# Altium footprint library Smart_Gateway_Rev1.0.PcbLib: 49 footprints (part 3 of 4)
Each footprint in its own frame and in the unit in brackets; x right, y up, seen from the top. Pads: shape width x height; smd on the part's side, far side on the other; paste and mask are expansions set on the pad; w line width, h text height; cw(c..) or ccw(c..) is an arc to the next point about the centre after c.
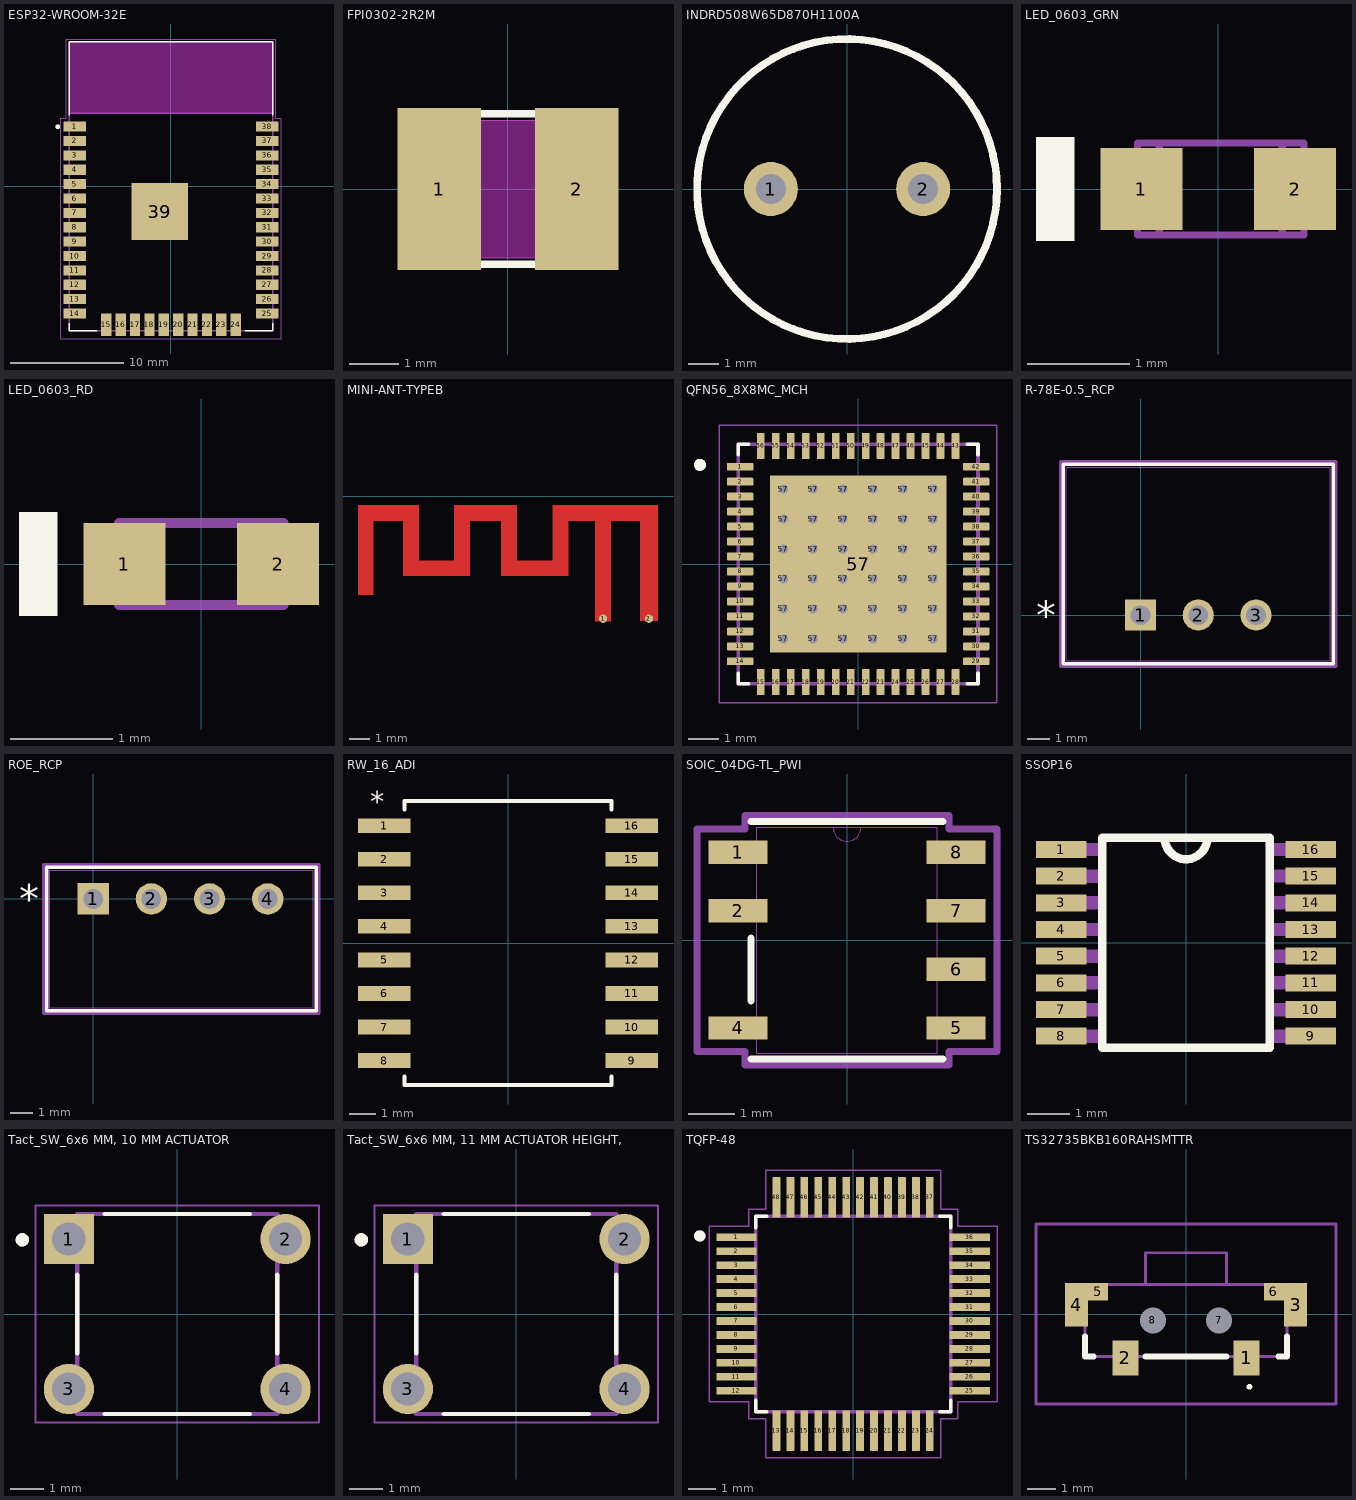
[diagram p2: the footprints below, top view; thin cyan lines are the x and y axes]

## ESP32-WROOM-32E [mm]
pads (39):
  rect 2x0.9 smd: 1(-8.5,5.26) 2(-8.5,3.99) 3(-8.5,2.72) 4(-8.5,1.45) 5(-8.5,0.18) 6(-8.5,-1.09) 7(-8.5,-2.36) 8(-8.5,-3.63) 9(-8.5,-4.9) 10(-8.5,-6.17) 11(-8.5,-7.44) 12(-8.5,-8.71) 13(-8.5,-9.98) 14(-8.5,-11.25) 25(8.5,-11.25) 26(8.5,-9.98) 27(8.5,-8.71) 28(8.5,-7.44) 29(8.5,-6.17) 30(8.5,-4.9) 31(8.5,-3.63) 32(8.5,-2.36) 33(8.5,-1.09) 34(8.5,0.18) 35(8.5,1.45) 36(8.5,2.72) 37(8.5,3.99) 38(8.5,5.26)
  rect 0.9x2 smd: 15(-5.715,-12.25) 16(-4.445,-12.25) 17(-3.175,-12.25) 18(-1.905,-12.25) 19(-0.635,-12.25) 20(0.635,-12.25) 21(1.905,-12.25) 22(3.175,-12.25) 23(4.445,-12.25) 24(5.715,-12.25)
  rect 5x5 smd paste-3: 39(-1,-2.24)
Top Overlay:
  circle w0.2: c-10,5.25 r0.1
  lines w0.127: -9,-12.1 -9,-12.75 -6.55,-12.75 ; -9,6.25 -9,12.75 9,12.75 9,6.25 ; 6.55,-12.75 9,-12.75 9,-12.1
Top Paste:
  region: -1.46,-4.28 -3.04,-4.28 -3.04,-2.7 -1.46,-2.7
  region: 1.04,-4.28 -0.54,-4.28 -0.54,-2.7 1.04,-2.7
  region: 1.04,-1.78 -0.54,-1.78 -0.54,-0.2 1.04,-0.2
  region: -1.46,-1.78 -3.04,-1.78 -3.04,-0.2 -1.46,-0.2
Keep-Out Layer:
  region: 9,6.45 -9,6.45 -9,12.75 9,12.75
  region: 9,6.45 -9,6.45 -9,12.75 9,12.75
Mechanical 13:
  circle w0.2: c-10,5.25 r0.1
  lines w0.127: -9,6.45 9,6.45 ; -9,6.45 -9,12.75 9,12.75 9,6.45 ; -9,6.45 -9,-12.75 9,-12.75 9,6.45
  text "ANTENNA" at -6,9 h1.78
Mechanical 15:
  lines w0.05: -9.75,-13.5 -9.75,6 -9.25,6 -9.25,13 9.25,13 9.25,6 9.75,6 9.75,-13.5 -9.75,-13.5
3D body "ESP32-WROOM-32 (8MB)--3DModel-STEP-56544.STEP": height 3.2, standoff 0, extent -9,-12.75 9,12.75

## FPI0302-2R2M [mm] "INDUCTOR POWER 2.2UH 3.3X3MM SMD"
pads (2):
  rect 1.7x3.3 smd paste+0 mask+0: 1(-1.4,0) 2(1.4,0)
Top Layer keep-out:
  region: -0.899,-1.349 -0.899,1.349 0.899,1.349 0.899,-1.349
Top Overlay:
  lines w0.152: -0.642,-1.527 0.642,-1.527 ; -0.642,1.527 0.642,1.527
Keep-Out Layer:
  region: -0.899,-1.4 -0.899,1.4 0.899,1.4 0.899,-1.4
Mechanical 13:
  lines w0.025: -1.75,-1.4 -1.75,1.4 ; -1.75,-1.4 -1.25,-1.4 -1.25,1.4 -1.75,1.4 ; -1.75,-1.4 1.75,-1.4 ; -1.75,-1.4 -1.75,1.4 ; -1.75,1.4 1.75,1.4 ; 1.75,-1.4 1.25,-1.4 1.25,1.4 1.75,1.4 ; 1.75,-1.4 1.75,1.4 ; 1.75,-1.4 1.75,1.4
3D body: height 2.1, standoff 0, extent -1.64,-0.11 -0.46,1.49
3D body: height 2.1, standoff 0, extent 0.36,-0.11 1.54,1.49
3D body: height 2.1, standoff 0, extent 0.36,-1.51 1.54,0.09
3D body: height 2.1, standoff 0, extent -1.64,-1.51 -0.46,0.09
3D body: height 2.1, standoff 0, extent -0.55,-1.51 0.45,1.49

## INDRD508W65D870H1100A [mm]
pads (2):
  round 1.8 hole 1: 1(-2.54,0) 2(2.54,0)
Top Overlay:
  circle w0.254: c0,0 r5
3D body "User Library-Inductor 10x12 (200 mils).STEP": height 12.01, standoff -3.99, extent -5,-4.965 5,5.035

## LED_0603_GRN [mm]
pads (2):
  rect 0.8x0.8 smd: 1(-0.75,0) 2(0.75,0)
Top Overlay:
  rectangle: -1.778,-0.508 -1.4,0.508
Mechanical 13:
  lines w0.07: -0.575,-0.45 -0.575,0.45 ; 0.625,-0.45 0.625,0.45 ; -0.787,-0.45 -0.787,0.45 0.838,0.45 0.838,-0.45 -0.787,-0.45
3D body: height 0.36, standoff 0.35, extent -0.574,-0.449 0.625,0.45
3D body: height 0.35, standoff 0, extent -0.787,-0.45 -0.575,0.45
3D body: height 0.35, standoff 0, extent -0.574,-0.449 0.625,0.45
3D body: height 0.8, standoff 0.35, extent -0.574,-0.449 0.625,0.45
3D body: height 0.35, standoff 0, extent 0.626,-0.45 0.838,0.45

## LED_0603_RD [mm]
pads (2):
  rect 0.8x0.8 smd: 1(-0.75,0) 2(0.75,0)
Top Overlay:
  rectangle: -1.778,-0.508 -1.4,0.508
Mechanical 13:
  rectangle: 0.525,-0.4 0.775,0.4
  lines w0.1: -0.8,-0.4 -0.8,0.4 0.8,0.4 0.8,-0.4 -0.8,-0.4
3D body: height 0.28, standoff 0.1, extent -0.6,-0.4 0.6,0.4
3D body: height 0.2, standoff 0.15, extent -0.254,-0.254 0.254,0.254
3D body: height 0.1, standoff 0, extent -0.8,-0.4 0.8,0.4

## MINI-ANT-TYPEB [mm]
pads (2):
  round 0.4 smd paste-0.2: 1(13.208,-5.969) 2(15.445,-5.969)
Top Layer:
  rectangle: 15.004,-6.083 15.885,-0.429
  region: 12.831,-6.083 13.585,-6.083 13.585,-1.183 15.004,-1.183 15.004,-0.429 10.758,-0.429 10.758,-3.129 9.001,-3.129 9.001,-0.429 5.947,-0.429 5.947,-3.129 4.201,-3.129 4.201,-0.429 1.247,-0.429 1.247,-4.808 2.001,-4.808 2.001,-1.183 3.447,-1.183 3.447,-3.883 6.701,-3.883 6.701,-1.183 8.247,-1.183 8.247,-3.883 11.512,-3.883 11.512,-1.183 12.831,-1.183

## QFN56_8X8MC_MCH [mm]
pads (93):
  rrect25% 0.88x0.26 smd: 1(-3.94,3.25) 2(-3.94,2.75) 3(-3.94,2.25) 4(-3.94,1.75) 5(-3.94,1.25) 6(-3.94,0.75) 7(-3.94,0.25) 8(-3.94,-0.25) 9(-3.94,-0.75) 10(-3.94,-1.25) 11(-3.94,-1.75) 12(-3.94,-2.25) 13(-3.94,-2.75) 14(-3.94,-3.25) 29(3.94,-3.25) 30(3.94,-2.75) 31(3.94,-2.25) 32(3.94,-1.75) 33(3.94,-1.25) 34(3.94,-0.75) 35(3.94,-0.25) 36(3.94,0.25) 37(3.94,0.75) 38(3.94,1.25) 39(3.94,1.75) 40(3.94,2.25) 41(3.94,2.75) 42(3.94,3.25)
  rrect25% 0.26x0.88 smd: 15(-3.25,-3.94) 16(-2.75,-3.94) 17(-2.25,-3.94) 18(-1.75,-3.94) 19(-1.25,-3.94) 20(-0.75,-3.94) 21(-0.25,-3.94) 22(0.25,-3.94) 23(0.75,-3.94) 24(1.25,-3.94) 25(1.75,-3.94) 26(2.25,-3.94) 27(2.75,-3.94) 28(3.25,-3.94) 43(3.25,3.94) 44(2.75,3.94) 45(2.25,3.94) 46(1.75,3.94) 47(1.25,3.94) 48(0.75,3.94) 49(0.25,3.94) 50(-0.25,3.94) 51(-0.75,3.94) 52(-1.25,3.94) 53(-1.75,3.94) 54(-2.25,3.94) 55(-2.75,3.94) 56(-3.25,3.94)
  round 0.4 hole 0.3: 57(-2.5,-2.5) 57(-2.5,-1.5) 57(-2.5,-0.5) 57(-2.5,0.5) 57(-2.5,1.5) 57(-2.5,2.5) 57(-1.5,-2.5) 57(-1.5,-1.5) 57(-1.5,-0.5) 57(-1.5,0.5) 57(-1.5,1.5) 57(-1.5,2.5) 57(-0.5,-2.5) 57(-0.5,-1.5) 57(-0.5,-0.5) 57(-0.5,0.5) 57(-0.5,1.5) 57(-0.5,2.5) 57(0.5,-2.5) 57(0.5,-1.5) 57(0.5,-0.5) 57(0.5,0.5) 57(0.5,1.5) 57(0.5,2.5) 57(1.5,-2.5) 57(1.5,-1.5) 57(1.5,-0.5) 57(1.5,0.5) 57(1.5,1.5) 57(1.5,2.5) 57(2.5,-2.5) 57(2.5,-1.5) 57(2.5,-0.5) 57(2.5,0.5) 57(2.5,1.5) 57(2.5,2.5)
  rect 5.9x5.9 smd paste-4: 57(0,0)
Top Overlay:
  circle w0.2: c-5.28,3.31 r0.1
  lines w0.127: -4,-3.65 -4,-4 -3.65,-4 ; -4,3.65 -4,4 -3.65,4 ; 3.65,-4 4,-4 4,-3.65 ; 3.65,4 4,4 4,3.65
Top Paste:
  region: 2.7,1.5 1.5,1.5 1.5,2.7 2.7,2.7
  region: 2.7,0.1 1.5,0.1 1.5,1.3 2.7,1.3
  region: 2.7,-1.3 1.5,-1.3 1.5,-0.1 2.7,-0.1
  region: 2.7,-2.7 1.5,-2.7 1.5,-1.5 2.7,-1.5
  region: -1.5,-2.7 -2.7,-2.7 -2.7,-1.5 -1.5,-1.5
  region: 1.3,-2.7 0.1,-2.7 0.1,-1.5 1.3,-1.5
  region: -0.1,-2.7 -1.3,-2.7 -1.3,-1.5 -0.1,-1.5
  region: 1.3,1.5 0.1,1.5 0.1,2.7 1.3,2.7
  region: -0.1,1.5 -1.3,1.5 -1.3,2.7 -0.1,2.7
  region: -1.5,1.5 -2.7,1.5 -2.7,2.7 -1.5,2.7
  region: -1.5,0.1 -2.7,0.1 -2.7,1.3 -1.5,1.3
  region: -1.5,-1.3 -2.7,-1.3 -2.7,-0.1 -1.5,-0.1
  region: 1.3,-1.3 0.1,-1.3 0.1,-0.1 1.3,-0.1
  region: -0.1,-1.3 -1.3,-1.3 -1.3,-0.1 -0.1,-0.1
  region: 1.3,0.1 0.1,0.1 0.1,1.3 1.3,1.3
  region: -0.1,0.1 -1.3,0.1 -1.3,1.3 -0.1,1.3
Mechanical 13:
  circle w0.2: c-5.28,3.31 r0.1
  lines w0.127: -4,-4 -4,4 4,4 4,-4 -4,-4
Mechanical 15:
  lines w0.05: -4.635,-4.635 -4.635,4.635 4.635,4.635 4.635,-4.635 -4.635,-4.635
3D body "LAN9303I-ABZJ.STEP": height 1, standoff 0, extent -4,-4 4,4

## R-78E-0.5_RCP [mil]
pads (3):
  rect 54x54 / inner round 60 / far side rect 54x54 hole 34 paste-27 mask+0: 1(0,0)
  round 54 / inner round 60 / far side round 54 hole 34 paste-27 mask+0: 2(100,0) 3(200,0)
Top Overlay:
  lines w6: -133.5,-83.92 -133.5,261.08 333.5,261.08 333.5,-83.92 -133.5,-83.92
  text "*" at -181,-25 h50
Mechanical 13:
  lines w1: -128.5,-78.92 -128.5,256.08 328.5,256.08 328.5,-78.92 -128.5,-78.92
  text "*" at -131,-25 h50
Mechanical 15:
  lines w6: -138.5,-88.92 338.5,-88.92 338.5,266.08 -138.5,266.08 -138.5,-88.92
3D body "R-78E-05_RCP.step": height 409.45, standoff -195.98, extent -128.5,-78.48 328.5,256.48

## ROE_RCP [mil]
pads (4):
  rect 54x54 / inner round 60 / far side rect 54x54 hole 34 paste-27 mask+0: 1(0,0)
  round 54 / inner round 60 / far side round 54 hole 34 paste-27 mask+0: 2(100,0) 3(200,0) 4(300,0)
Top Overlay:
  lines w6: -79.93,-191.9 383.07,-191.9 383.07,54.1 -79.93,54.1 -79.93,-191.9
  text "*" at -127.43,-25 h50
Mechanical 13:
  lines w1: -74.93,-186.9 378.07,-186.9 378.07,49.1 -74.93,49.1 -74.93,-186.9
  text "*" at -77.43,-25 h50
Mechanical 15:
  lines w6: -84.93,-196.9 -84.93,59.1 388.07,59.1 388.07,-196.9 -84.93,-196.9
3D body "ROE_RCP.step": height 394.02, standoff -195.98, extent -76.5,-185.98 376.5,50

## RW_16_ADI [mil]
pads (16):
  rect 78x22 smd: 1(-184.5,175) 2(-184.5,125) 3(-184.5,75) 4(-184.5,25) 5(-184.5,-25) 6(-184.5,-75) 7(-184.5,-125) 8(-184.5,-175) 9(184.5,-175) 10(184.5,-125) 11(184.5,-75) 12(184.5,-25) 13(184.5,25) 14(184.5,75) 15(184.5,125) 16(184.5,175)
Top Overlay:
  lines w6: -154.5,-199.1 -154.5,-211.5 154.5,-211.5 154.5,-199.1 ; -154.5,199.1 -154.5,211.5 154.5,211.5 154.5,199.1
  text "*" at -205,195 h31.25
3D body "RW_16_ADI.step": height 104.09, standoff 0, extent -209.48,-206.49 209.49,206.5

## SOIC_04DG-TL_PWI [mm]
pads (7):
  rect 1.27x0.508 smd paste+0 mask+0: 1(-2.365,1.905) 2(-2.365,0.635) 4(-2.365,-1.905) 5(2.365,-1.905) 6(2.365,-0.635) 7(2.365,0.635) 8(2.365,1.905)
Top Overlay:
  lines w0.152: -2.083,-2.578 2.083,-2.578 ; -2.083,-1.318 -2.083,0.048 ; -2.083,2.578 2.083,2.578
Mechanical 13:
  lines w0: -0.305,2.451 ccw(c0,2.451) 0.305,2.451
  lines w0.025: -1.956,-2.451 1.956,-2.451 1.956,2.451 -1.956,2.451 -1.956,-2.451
Mechanical 15:
  lines w0.152: -3.254,-2.413 -3.254,2.413 -2.21,2.413 -2.21,2.705 2.21,2.705 2.21,2.413 3.254,2.413 3.254,-2.413 2.21,-2.413 2.21,-2.705 -2.21,-2.705 -2.21,-2.413 -3.254,-2.413
3D body "SOIC_04DG-TL_PWI.step": height 1.75, standoff 0, extent -2.65,-2.451 2.65,2.451

## SSOP16 [mil]
pads (16):
  rect 47.24x16 smd: 1(-117,87.5) 2(-117,62.5) 3(-117,37.5) 4(-117,12.5) 5(-117,-12.5) 6(-117,-37.5) 7(-117,-62.5) 8(-117,-87.5) 9(117,-87.5) 10(117,-62.5) 11(117,-37.5) 12(117,-12.5) 13(117,12.5) 14(117,37.5) 15(117,62.5) 16(117,87.5)
Top Overlay:
  lines w8: -20,98.4 ccw(c0,98.4) 20,98.4 ; -78.4,-98.4 78.4,-98.4 78.4,98.4 -78.4,98.4 -78.4,-98.4
Mechanical 13:
  region: -78.5,81.77 -122.41,81.77 -122.41,93.5 -78.5,93.5
  region: -78.5,56.58 -122.17,56.58 -122.17,68.5 -78.5,68.5
  region: -78.5,31.6 -122.37,31.6 -122.37,43.5 -78.5,43.5
  region: -78.5,6.51 -122.12,6.51 -122.12,18.5 -78.5,18.5
  region: -78.5,-18.52 -122.15,-18.52 -122.15,-6.5 -78.5,-6.5
  region: -78.5,-43.61 -122.32,-43.61 -122.32,-31.5 -78.5,-31.5
  region: -78.5,-68.61 -122.2,-68.61 -122.2,-56.5 -78.5,-56.5
  region: -78.5,-93.72 -122.29,-93.72 -122.29,-81.5 -78.5,-81.5
  region: 122,-93.77 78.72,-93.77 78.72,-81.5 122,-81.5
  region: 122,-68.68 78.71,-68.68 78.71,-56.5 122,-56.5
  region: 122,-43.62 78.72,-43.62 78.72,-31.5 122,-31.5
  region: 122,-18.57 78.8,-18.57 78.8,-6.5 122,-6.5
  region: 122,6.51 78.66,6.51 78.66,18.5 122,18.5
  region: 122,31.57 78.68,31.57 78.68,43.5 122,43.5
  region: 122,56.62 78.67,56.62 78.67,68.5 122,68.5
  region: 122,81.68 78.67,81.68 78.67,93.5 122,93.5
3D body "SSOP16_FTD.step": height 69.09, standoff 0, extent -122.01,-98.5 122.01,98.5

## Tact_SW_6x6 MM, 10 MM ACTUATOR [mm]
pads (4):
  rect 1.508x1.508 hole 1: 1(-3.25,2.25)
  round 1.508 hole 1: 2(3.25,2.25) 3(-3.25,-2.25) 4(3.25,-2.25)
Top Overlay:
  circle w0.2: c-4.647,2.226 r0.1
  lines w0.127: -3,-1.176 -3,1.176 ; -2.176,-3 2.176,-3 ; -2.176,3 2.176,3 ; 3,-1.176 3,1.176
Mechanical 13:
  circle w0.2: c-4.647,2.226 r0.1
  lines w0.127: -3,-3 -3,3 3,3 3,-3 -3,-3
Mechanical 15:
  lines w0.05: -4.254,-3.254 4.254,-3.254 4.254,3.254 -4.254,3.254 -4.254,-3.254
3D body "CUI_DEVICES_TS02-66-100-BK-160-SCR-D.step": height 10, standoff -1.65, extent -3.6,-3 3.6,3

## Tact_SW_6x6 MM, 11 MM ACTUATOR HEIGHT, [mm]
pads (4):
  rect 1.508x1.508 hole 1: 1(-3.25,2.25)
  round 1.508 hole 1: 2(3.25,2.25) 3(-3.25,-2.25) 4(3.25,-2.25)
Top Overlay:
  circle w0.2: c-4.647,2.226 r0.1
  lines w0.127: -3,-1.176 -3,1.176 ; -2.176,-3 2.176,-3 ; -2.176,3 2.176,3 ; 3,-1.176 3,1.176
Mechanical 13:
  circle w0.2: c-4.647,2.226 r0.1
  lines w0.127: -3,-3 -3,3 3,3 3,-3 -3,-3
Mechanical 15:
  lines w0.05: -4.254,-3.254 4.254,-3.254 4.254,3.254 -4.254,3.254 -4.254,-3.254
3D body "CUI_DEVICES_TS02-66-110-BK-260-LCR-D.step": height 11, standoff -3.5, extent -3.95,-3 3.95,3

## TQFP-48 [mm]
pads (48):
  rrect7% 1.44x0.28 smd: 1(-4.185,2.75) 2(-4.185,2.25) 3(-4.185,1.75) 4(-4.185,1.25) 5(-4.185,0.75) 6(-4.185,0.25) 7(-4.185,-0.25) 8(-4.185,-0.75) 9(-4.185,-1.25) 10(-4.185,-1.75) 11(-4.185,-2.25) 12(-4.185,-2.75) 25(4.185,-2.75) 26(4.185,-2.25) 27(4.185,-1.75) 28(4.185,-1.25) 29(4.185,-0.75) 30(4.185,-0.25) 31(4.185,0.25) 32(4.185,0.75) 33(4.185,1.25) 34(4.185,1.75) 35(4.185,2.25) 36(4.185,2.75)
  rrect7% 0.28x1.44 smd: 13(-2.75,-4.185) 14(-2.25,-4.185) 15(-1.75,-4.185) 16(-1.25,-4.185) 17(-0.75,-4.185) 18(-0.25,-4.185) 19(0.25,-4.185) 20(0.75,-4.185) 21(1.25,-4.185) 22(1.75,-4.185) 23(2.25,-4.185) 24(2.75,-4.185) 37(2.75,4.185) 38(2.25,4.185) 39(1.75,4.185) 40(1.25,4.185) 41(0.75,4.185) 42(0.25,4.185) 43(-0.25,4.185) 44(-0.75,4.185) 45(-1.25,4.185) 46(-1.75,4.185) 47(-2.25,4.185) 48(-2.75,4.185)
Top Overlay:
  circle w0.2: c-5.5,2.8 r0.1
  lines w0.127: -3.5,-3.1 -3.5,-3.5 -3.1,-3.5 ; -3.5,3.1 -3.5,3.5 -3.1,3.5 ; 3.1,-3.5 3.5,-3.5 3.5,-3.1 ; 3.1,3.5 3.5,3.5 3.5,3.1
Mechanical 13:
  circle w0.2: c-5.5,2.8 r0.1
  lines w0.127: -3.5,-3.5 3.5,-3.5 3.5,3.5 -3.5,3.5 -3.5,-3.5
Mechanical 15:
  lines w0.05: -5.16,-3.14 -5.16,3.14 -3.75,3.14 -3.75,3.75 -3.14,3.75 -3.14,5.16 3.14,5.16 3.14,3.75 3.75,3.75 3.75,3.14 5.16,3.14 5.16,-3.14 3.75,-3.14 3.75,-3.75 3.14,-3.75 3.14,-5.16 -3.14,-5.16 -3.14,-3.75 -3.75,-3.75 -3.75,-3.14 -5.16,-3.14
3D body "ATSAMD21G18A-AUT.STEP": height 1.21, standoff 0.01, extent -4.5,-4.5 4.5,4.5

## TS32735BKB160RAHSMTTR [mm]
pads (8):
  rect 0.9x1.2 smd: 1(2.1,-1.525) 2(-2.1,-1.525)
  rect 0.8x1.5 smd: 3(3.8,0.325) 4(-3.8,0.325)
  rect 0.7x0.6 smd: 5(-3.05,0.775) 6(3.05,0.775)
  round 0.45 hole 0.9 unplated: 7(1.15,-0.225) 8(-1.15,-0.225)
Top Overlay:
  lines w0.1: 2.2,-2.575 cw(c2.2,-2.525) 2.2,-2.475 cw(c2.2,-2.525) 2.2,-2.575
  lines w0.2: -3.5,-0.775 -3.5,-1.475 -3.2,-1.475 ; -1.4,-1.475 1.4,-1.475 ; 3.2,-1.475 3.5,-1.475 3.5,-0.775
Mechanical 13:
  lines w0.1: -3.5,-1.475 -3.5,1.025 3.5,1.025 3.5,-1.475 -3.5,-1.475 ; -1.4,1.025 1.4,1.025 1.4,2.125 -1.4,2.125 -1.4,1.025
Mechanical 15:
  lines w0.1: -5.2,-3.125 -5.2,3.125 5.2,3.125 5.2,-3.125 -5.2,-3.125
3D body "TS32-7-35-BK-B-260-RA-SMT-TR.stp": height 3.52, standoff -0.75, extent -3.9,-2 3.9,1.87